# EAGLE library part SLC03A-05 (library SLC03A-05)
Isolated DC/DC Converters 9-18Vin 5Vout 600mA DIP16 Reg Iso Source: Datasheet <https://www.arrow.com/en/products/slc03a-05/mean-well-enterprises>
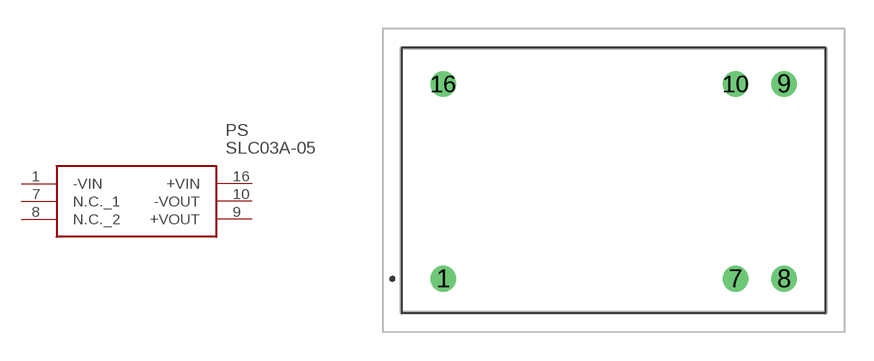
[diagram p0: symbol with the pads of SLC03A05; footprint SLC03A05]

Designator prefix PS

## SLC03A-05 (Description: Isolated DC/DC Converters 9-18Vin 5Vout 600mA DIP16 Reg Iso; Height: 8.8mm; Manufacturer_Name: Mean Well; Manufacturer_Part_Number: SLC03A-05; Mouser_Part_Number: 709-SLC03A-05; Mouser_Price-Stock: https://www.mouser.co.uk/ProductDetail/MEAN-WELL/SLC03A-05?qs=5aG0NVq1C4zKZvVvmNhyyA%3D%3D)  [SLC03A05]
1  -VIN
7  N.C._1
8  N.C._2
9  +VOUT
10  -VOUT
16  +VIN

## Footprint SLC03A05 (pad centres in mm)
SLC03A-05-1
drill 0.78 pad 1.337: 1 0,0; 7 15.24,0; 8 17.78,0; 9 17.78,10.16; 10 15.24,10.16; 16 0,10.16